# EAGLE library part DAC124S085 (library texas-instruments)
12-Bit Micro Power Quad Digital-to-Analog Converter with Rail-to-Rail Output The DAC124S085 is a full-featured, general purpose QUAD 12-bit voltage-output digital-to-analog converter (DAC) that can operate from a single +2.7V to 5.5V supply and consumes 1.1 mW at 3V and 2.4 mW at 5V. The DAC124S085 is packaged in 10-lead LLP and MSOP packages. The 10-lead LLP package makes the DAC124S085 the smallest QUAD DAC in its class. The on-chip output amplifier allows rail-to-rail output swing and the three wire serial interface operates at clock rates up to 40 MHz over the entire supply voltage range. Competitive devices are limited to 25 MHz clock rates at supply voltages in the 2.7V to 3.6V range. The serial interface is compatible with standard SPI™, QSPI, MICROWIRE and DSP interfaces. The reference for the DAC124S085 serves all four channels and can vary in voltage between 1V and VA, providing the widest possible output dynamic range. The DAC124S085 has a 16-bit input shift register that controls the outputs to be updated, the mode of operation, the powerdown condition, and the binary input data. All four outputs can be updated simultaneously or individually depending on the setting of the two mode of operation bits. A power-on reset circuit ensures that the DAC output powers up to zero volts and remains there until there is a valid write to the device. A power-down feature reduces power consumption to less than a microWatt with three different termination options. The low power consumption and small packages of the DAC124S085 make it an excellent choice for use in battery operated equipment. The DAC124S085 is one of a family of pin compatible DACs, including the 8-bit DAC084S085 and the 10-bit DAC104S085. The DAC124S085 operates over the extended industrial temperature range of −40°C to +105°C.
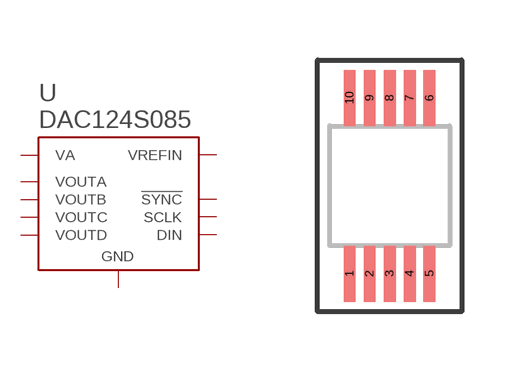
[diagram p6: symbol with the pads of S-PDSO-G10; footprint S-PDSO-G10]

Designator prefix U

## DAC124S085  [S-PDSO-G10]
1  VA
2  VOUTA
3  VOUTB
4  VOUTC
5  VOUTD
6  GND
7  VREFIN
8  DIN
9  !SYNC
10  SCLK

## Footprint S-PDSO-G10 (pad centres in mm)
smd 0.3 x 1.4: 1 -1,-2.2; 2 -0.5,-2.2; 3 0,-2.2; 4 0.5,-2.2; 5 1,-2.2; 6 1,2.2; 7 0.5,2.2; 8 0,2.2; 9 -0.5,2.2; 10 -1,2.2